# EAGLE library part DIR9001 (library Egna komponenter)
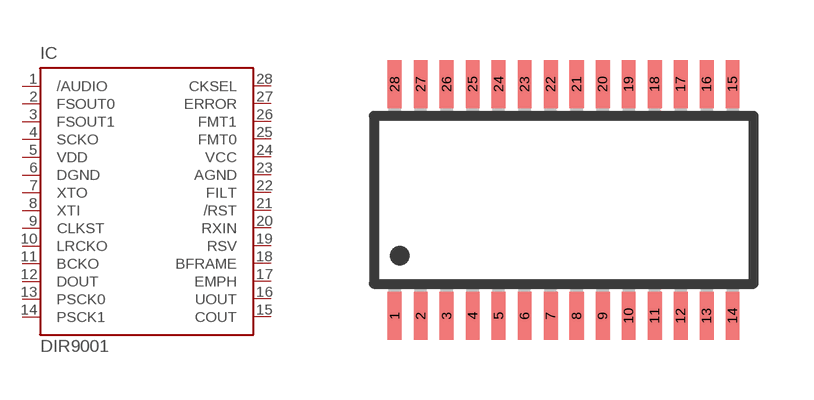
[diagram p10: symbol with the pads of TSSOP28; footprint TSSOP28]

Designator prefix IC

## DIR9001  [TSSOP28]
1  /AUDIO  out
2  FSOUT0  out
3  FSOUT1  out
4  SCKO  out
5  VDD  pwr
6  DGND  pwr
7  XTO  out
8  XTI  in
9  CLKST  out
10  LRCKO  out
11  BCKO  out
12  DOUT  out
13  PSCK0  in
14  PSCK1  in
15  COUT  out
16  UOUT  out
17  EMPH  out
18  BFRAME  out
19  RSV  in
20  RXIN  in
21  /RST  in
22  FILT
23  AGND  pwr
24  VCC  pwr
25  FMT0  in
26  FMT1  in
27  ERROR  out
28  CKSEL  in

## Footprint TSSOP28 (pad centres in mm)
smd 0.35 x 1.2: 1 -5.495,-2.9; 2 -4.845,-2.9; 3 -4.195,-2.9; 4 -3.545,-2.9; 5 -2.895,-2.9; 6 -2.245,-2.9; 7 -1.595,-2.9; 8 -0.945,-2.9; 9 -0.295,-2.9; 10 0.355,-2.9; 11 1.005,-2.9; 12 1.655,-2.9; 13 2.305,-2.9; 14 2.955,-2.9; 15 2.955,2.9; 16 2.305,2.9; 17 1.655,2.9; 18 1.005,2.9; 19 0.355,2.9; 20 -0.295,2.9; 21 -0.945,2.9; 22 -1.595,2.9; 23 -2.245,2.9; 24 -2.895,2.9; 25 -3.545,2.9; 26 -4.195,2.9; 27 -4.845,2.9; 28 -5.495,2.9